# Altium schematic symbol library V_4.SchLib: 4 symbols
Pins are listed as number, name and electrical type; pins without a type are passive.

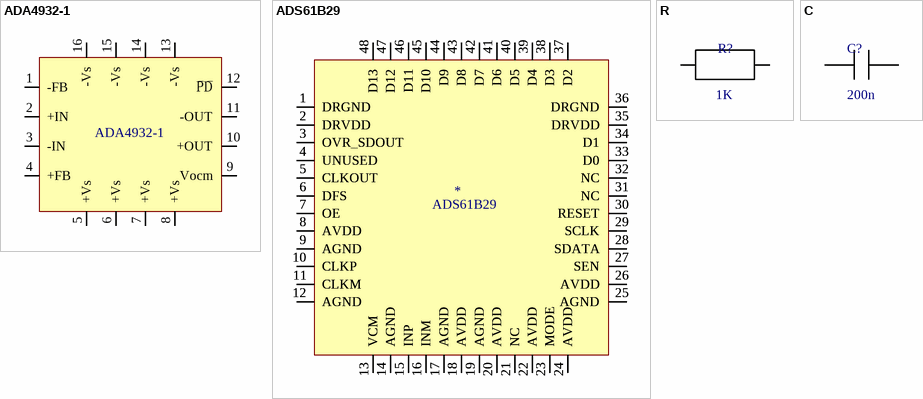
[diagram p0: symbols ADA4932-1 to С]

## ADA4932-1
designator OA?  (value not drawn)
footprint ADA4932 (QFN, 16-Leads, Body 3,00x3,00mm, Pitch 0,50mm, Thermal Pad 1,40x1,40mm, IPC Medium Density)
pins: 1 -FB, 2 +IN, 3 -IN, 4 +FB, 5 +Vs, 6 +Vs, 7 +Vs, 8 +Vs, 9 Vocm, 10 +OUT, 11 -OUT, 12 P̅D̅, 13 -Vs, 14 -Vs, 15 -Vs, 16 -Vs

## ADS61B29
designator *  (value not drawn)
footprint ADS61B29 (QFN, 48-Leads, Body 7,00x7,00mm, Pitch 0,50mm, Thermal Pad 5,45x5,45mm, IPC Medium Density)
pins: 1 DRGND, 1 DRGND, 2 DRVDD, 2 DRVDD, 3 OVR_SDOUT, 3 OVR_SDOUT, 4 UNUSED, 4 UNUSED, 5 CLKOUT, 5 CLKOUT, 6 DFS, 6 DFS, 7 OE, 7 OE, 8 AVDD, 8 AVDD, 9 AGND, 9 AGND, 10 CLKP, 10 CLKP, 11 CLKM, 11 CLKM, 12 AGND, 12 AGND, 13 VCM, 13 VCM, 14 AGND, 14 AGND, 15 INP, 15 INP, 16 INM, 16 INM, 17 AGND, 17 AGND, 18 AVDD, 18 AVDD, 19 AGND, 19 AGND, 20 AVDD, 20 AVDD, 21 NC, 21 NC, 22 AVDD, 22 AVDD, 23 MODE, 23 MODE, 24 AVDD, 24 AVDD, 25 AGND, 25 AGND, 26 AVDD, 26 AVDD, 27 SEN, 27 SEN, 28 SDATA, 28 SDATA, 29 SCLK, 29 SCLK, 30 RESET, 30 RESET, 31 NC, 31 NC, 32 NC, 32 NC, 33 D0, 33 D0, 34 D1, 34 D1, 35 DRVDD, 35 DRVDD, 36 DRGND, 36 DRGND, 37 D2, 37 D2, 38 D3, 38 D3, 39 D4, 39 D4, 40 D5, 40 D5, 41 D6, 41 D6, 42 D7, 42 D7, 43 D8, 43 D8, 44 D9, 44 D9, 45 D10, 45 D10, 46 D11, 46 D11, 47 D12, 47 D12, 48 D13, 48 D13

## R
designator R?  value 1K  (hidden comment: *)
footprint R (Chip Resistor, 2-Leads, Body 2,00x1,25mm, IPC Medium Density)
pins: 1, 2

## С
designator C?  value 200n  (hidden comment: *)
footprint C (Chip Capacitor, 2-Leads, Body 2,05x1,27mm, IPC Medium Density)
pins: 1, 2